# Altium footprint library LABLIB.PcbLib: 213 footprints (part 8 of 14)
Each footprint in its own frame and in the unit in brackets; x right, y up, seen from the top. Pads: shape width x height; smd on the part's side, far side on the other; paste and mask are expansions set on the pad; w line width, h text height; cw(c..) or ccw(c..) is an arc to the next point about the centre after c.
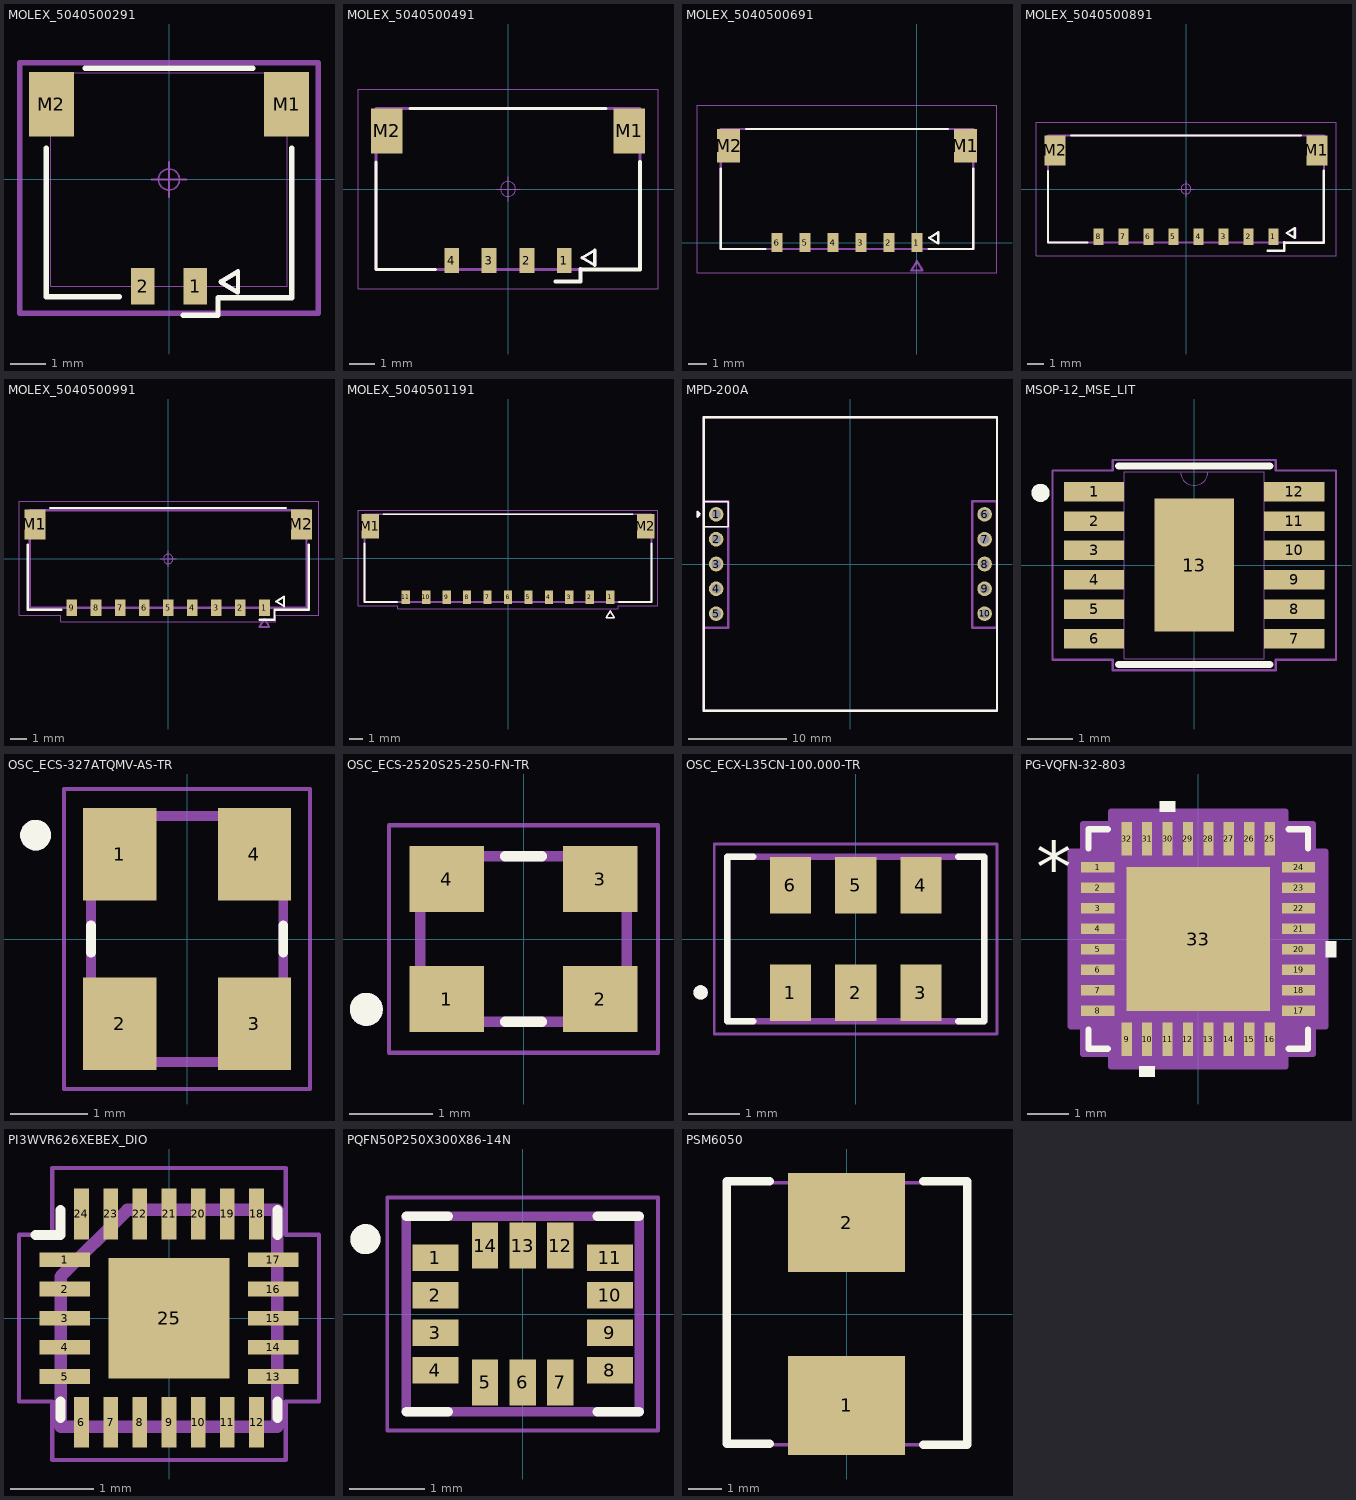
[diagram p7: the footprints below, top view; thin cyan lines are the x and y axes]

## MOLEX_5040500291 [mil]
pads (4):
  rect 26x41 smd paste+0 mask+0: 1(29.53,-119.76) 2(-29.53,-119.76)
  rect 51x73 smd paste+0 mask+0: M1(132.09,84.57) M2(-132.09,84.57)
Top Overlay:
  lines w5: 57.87,-115.04 77.56,-103.23 77.56,-126.85 57.87,-115.04
  lines w5.91: 15.75,-152.44 55.12,-152.44 55.12,-132.76
  lines w6: -138,34.97 -138,-131.75 -55.63,-131.75 ; -94.09,125 94.09,125 ; 55.63,-132.91 138,-132.91 138,34.97
Top Assembly:
  text "'.Designator'" at -166.01,-26.12 h62.99
Top Component Center:
  circle w1.97: c0,0 r11.81
  lines w1.97: -19.68,0 19.68,0 ; 0,-19.68 0,19.68
Mechanical 13:
  lines w1: -133,-120 133,-120 133,120 -133,120 -133,-120
  lines w5: 57.87,-115.04 77.56,-103.23 77.56,-126.85 57.87,-115.04
Mechanical 15:
  lines w6: -167.59,-150.26 -167.59,131.07 167.59,131.07 167.59,-150.26 -167.59,-150.26
3D body "5040500291.stp": height 78.74, standoff 0, extent -148.65,-132.46 148.59,121.08

## MOLEX_5040500491 [mm]
height 2.15
pads (6):
  rect 0.6x1 smd mask+0.076: 1(2.25,-2.87) 2(0.75,-2.87) 3(-0.75,-2.87) 4(-2.25,-2.87)
  rect 1.25x1.8 smd mask+0.076: M1(4.855,2.32) M2(-4.855,2.32)
Top Overlay:
  lines w0.127: -5.275,1.08 -5.275,-3.22 -2.9,-3.22 ; -3.91,3.22 3.91,3.22 ; 2.97,-2.75 3.47,-3.05 3.47,-2.45 2.97,-2.75
  lines w0.15: 1.9,-3.7 2.9,-3.7 2.9,-3.2 ; 2.9,-3.22 5.275,-3.22 5.275,1.08
Top Assembly:
  text "'.Designator'" at -4.217,-0.663 h1.6
Top Courtyard:
  lines w0.05: -6,-4 -6,4 6,4 6,-4 -6,-4
Top Component Center:
  circle w0.05: c0,0 r0.3
  lines w0.05: -0.5,0 0.5,0 ; 0,-0.5 0,0.5
Mechanical 13:
  lines w0.127: -5.275,-3.22 5.275,-3.22 5.275,3.22 -5.275,3.22 -5.275,-3.22 ; 2.97,-2.75 3.47,-3.05 3.47,-2.45 2.97,-2.75
3D body "5040500491.stp": height 2, standoff 0, extent -5.275,-3.2 5.275,3.24

## MOLEX_5040500691 [mm]
height 2.15
pads (8):
  rect 0.6x1 smd mask+0.076: 1(0,0) 2(-1.5,0) 3(-3,0) 4(-4.5,0) 5(-6,0) 6(-7.5,0)
  rect 1.25x1.8 smd mask+0.076: M1(2.605,5.19) M2(-10.105,5.19)
Top Overlay:
  lines w0.127: -10.525,3.97 -10.525,-0.35 -8.12,-0.35 ; -9.16,6.09 1.66,6.09 ; 0.62,-0.35 3.025,-0.35 3.025,3.97 ; 0.65,0.25 1.15,0.55 1.15,-0.05 0.65,0.25
Mechanical 13:
  lines w0.127: -10.525,-0.35 -10.525,6.09 3.025,6.09 3.025,-0.35 -10.525,-0.35 ; -0.3,-1.5 0,-1 0.3,-1.5 -0.3,-1.5
  text "1.50mm Pitch, Pico-Lock PCB Header, Single Row, Right-Angle" at -10.5,-5 h0.5
Mechanical 15:
  lines w0.05: -11.795,-1.62 4.295,-1.62 4.295,7.36 -11.795,7.36 -11.795,-1.62
3D body "5040500691.stp": height 2, standoff 0, extent -10.475,-0.4 3.075,6.04

## MOLEX_5040500891 [mm]
height 2.15
pads (10):
  rect 0.6x1 smd mask+0.076: 1(5.25,-2.87) 2(3.75,-2.87) 3(2.25,-2.87) 4(0.75,-2.87) 5(-0.75,-2.87) 6(-2.25,-2.87) 7(-3.75,-2.87) 8(-5.25,-2.87)
  rect 1.25x1.8 smd mask+0.076: M1(7.855,2.32) M2(-7.855,2.32)
Top Overlay:
  lines w0.127: -8.275,1.08 -8.275,-3.22 -5.9,-3.22 ; -6.91,3.22 6.91,3.22 ; 6.028,-2.645 6.528,-2.345 6.528,-2.945 6.028,-2.645
  lines w0.15: 4.9,-3.7 5.9,-3.7 5.9,-3.2 ; 5.9,-3.22 8.275,-3.22 8.275,1.08
Top Assembly:
  text "'.Designator'" at -4.217,-0.663 h1.6
Top Courtyard:
  lines w0.05: -9,-4 9,-4 9,4 -9,4 -9,-4
Top Component Center:
  circle w0.05: c0,0 r0.3
  lines w0.05: -0.5,0 0.5,0 ; 0,-0.5 0,0.5
Mechanical 13:
  lines w0.127: -8.275,-3.22 -8.275,3.22 8.275,3.22 8.275,-3.22 -8.275,-3.22 ; 6.07,-2.65 6.57,-2.95 6.57,-2.35 6.07,-2.65
3D body "5040500891.stp": height 2, standoff 0, extent -8.275,-3.2 8.275,3.24

## MOLEX_5040500991 [mil]
pads (11):
  rect 26x41 smd paste+0 mask+0: 1(236.22,-119.76) 2(177.17,-119.76) 3(118.11,-119.76) 4(59.06,-119.76) 5(0,-119.76) 6(-59.06,-119.76) 7(-118.11,-119.76) 8(-177.17,-119.76) 9(-236.22,-119.76)
  rect 51x73 smd: M1(-326.97,84.57) M2(326.97,84.57)
Top Overlay:
  lines w5: 264.96,-104.33 284.65,-92.52 284.65,-116.14 264.96,-104.33
  lines w5.91: -344.5,34.97 -344.5,-125 -262.32,-125 ; -288.97,125 288.97,125 ; 224.41,-149.61 260.92,-149.61 260.92,-125.02 ; 344.5,34.97 344.5,-125 260.9,-125 ; 260.9,-125 260.92,-125.02
Top Assembly:
  lines w5: 224.26,-166.53 236.07,-146.84 247.89,-166.53 224.26,-166.53
  lines w5.91: -339.5,-120 339.5,-120 339.5,120 -339.5,120 -339.5,-120
  text "'.Designator'" at -166.01,-26.12 h62.99
Top Courtyard:
  lines w1.97: -366.14,-137.8 -366.14,141.73 -303.15,141.73 370.08,141.73 370.08,-137.8 263.78,-137.8 263.78,-153.54 -263.78,-153.54 -263.78,-137.8 -366.14,-137.8
Top Component Center:
  circle w1.97: c0,0 r11.81
  lines w1.97: -19.68,0 19.68,0 ; 0,-19.68 0,19.68
3D body "5040500991.stp": height 78.74, standoff 0, extent -355.31,-125.98 355.31,127.56

## MOLEX_5040501191 [mm]
height 2.15
pads (13):
  rect 0.6x1 smd mask+0.076: 1(7.5,-2.87) 2(6,-2.87) 3(4.5,-2.87) 4(3,-2.87) 5(1.5,-2.87) 6(0,-2.87) 7(-1.5,-2.87) 8(-3,-2.87) 9(-4.5,-2.87) 10(-6,-2.87) 11(-7.5,-2.87)
  rect 1.25x1.8 smd mask+0.076: M1(-10.105,2.32) M2(10.105,2.32)
Top Overlay:
  lines w0.127: -10.525,1.08 -10.525,-3.22 -8.15,-3.22 ; -9.16,3.22 9.16,3.22 ; 8.15,-3.22 10.525,-3.22 10.525,1.08 ; 7.2,-4.37 7.8,-4.37 7.5,-3.87 7.2,-4.37
Top Courtyard:
  lines w0.05: -11,-3.5 -8.1,-3.5 -8.1,-3.7 8.1,-3.7 8.1,-3.5 10.8,-3.5 11,-3.5 11,3.4 11,3.5 -11,3.5 -11,-3.5
Mechanical 13:
  lines w0.127: -10.525,-3.22 10.525,-3.22 10.525,3.22 -10.525,3.22 -10.525,-3.22 ; 7.2,-4.37 7.8,-4.37 7.5,-3.87 7.2,-4.37
3D body "5040501191.stp": height 2, standoff 0, extent -10.525,-3.2 10.525,3.24

## MPD-200A [mm]
pads (10):
  round 1.5 hole 1 paste-2539.97 mask+0: 1(-13.74,5.08) 2(-13.74,2.54) 3(-13.74,0) 4(-13.74,-2.54) 5(-13.74,-5.08) 6(13.73,5.08) 7(13.73,2.54) 8(13.73,0) 9(13.73,-2.54) 10(13.73,-5.08)
Top Overlay:
  lines w0.15: -15.692,5.054 -15.416,5.054 -15.692,4.778 -15.692,5.378 -15.392,5.078 ; -15.592,4.978 -15.592,5.178 ; -14.987,3.806 -12.524,3.806 -12.5,3.83 -12.5,6.346 -14.987,6.346
  lines w0.254: -15,-15 -15,15 15,15 15,-15 -15,-15
Top Assembly:
  lines w0.15: -15.599,4.988 -15.599,5.188 ; -15.599,5.088 -15.499,5.088 ; -15.699,4.788 -15.699,5.388 -15.399,5.088 -15.699,4.788
  lines w0.254: -15,-6.5 -15,6.4 -12.5,6.4 -12.5,-6.5 -15,-6.5 ; 12.47,-6.5 12.47,6.4 14.97,6.4 14.97,-6.5 12.47,-6.5
Top Courtyard:
  lines w0.15: -14.987,3.806 -12.524,3.806 -12.5,3.83 -12.5,6.346 -14.987,6.346
  lines w0.254: -15,-15 -15,15 15,15 15,-15 -15,-15
Bottom Courtyard:
  lines w0.15: -14.987,3.806 -12.524,3.806 -12.5,3.83 -12.5,6.346 -14.987,6.346
  lines w0.254: -15,-15 -15,15 15,15 15,-15 -15,-15
3D body "MPD-200A.step": height 18.2, standoff -5.83, extent -15,-15 15.1,15

## MSOP-12_MSE_LIT [mil]
pads (13):
  rect 52.5x17 smd paste+0 mask+0: 1(-87.25,64) 2(-87.25,38.4) 3(-87.25,12.8) 4(-87.25,-12.8) 5(-87.25,-38.4) 6(-87.25,-64) 7(87.25,-64) 8(87.25,-38.4) 9(87.25,-12.8) 10(87.25,12.8) 11(87.25,38.4) 12(87.25,64)
  rect 69x116 smd paste-57.5 mask+0: 13(0,0)
Top Overlay:
  circle w7.87: c-133.86,62.99 r3.94
  lines w6: -66,-86.5 66,-86.5 ; -66,86.5 66,86.5
Top Paste:
  region: 30.56,-3.94 -30.56,-3.94 -30.56,-54.06 30.56,-54.06
  region: 30.56,54.06 -30.56,54.06 -30.56,3.94 30.56,3.94
Mechanical 13:
  lines w1: -12,81.5 ccw(c0,81.5) 12,81.5 ; -99.5,-71.5 -61,-71.5 -61,-56.5 -99.5,-56.5 -99.5,-71.5 ; -99.5,-45.9 -61,-45.9 -61,-30.9 -99.5,-30.9 -99.5,-45.9 ; -99.5,-20.3 -61,-20.3 -61,-5.3 -99.5,-5.3 -99.5,-20.3 ; -99.5,5.3 -61,5.3 -61,20.3 -99.5,20.3 -99.5,5.3 ; -99.5,30.9 -61,30.9 -61,45.9 -99.5,45.9 -99.5,30.9 ; -99.5,56.5 -61,56.5 -61,71.5 -99.5,71.5 -99.5,56.5 ; -61,-81.5 -61,81.5 61,81.5 61,-81.5 -61,-81.5 ; 61,-71.5 99.5,-71.5 99.5,-56.5 61,-56.5 61,-71.5 ; 61,-45.9 99.5,-45.9 99.5,-30.9 61,-30.9 61,-45.9 ; 61,-20.3 99.5,-20.3 99.5,-5.3 61,-5.3 61,-20.3 ; 61,5.3 99.5,5.3 99.5,20.3 61,20.3 61,5.3 ; 61,30.9 99.5,30.9 99.5,45.9 61,45.9 61,30.9 ; 61,56.5 99.5,56.5 99.5,71.5 61,71.5 61,56.5
  text ".Designator" at -137.5,-25 h50
  text "*" at -58.5,28.5 h50
Mechanical 15:
  lines w1.97: -123.5,-82.5 -71,-82.5 -71,-91.5 71,-91.5 71,-82.5 123.5,-82.5 123.5,82.5 71,82.5 71,91.5 -71,91.5 -71,82.5 -123.5,82.5 -123.5,-82.5
3D body "MSOP-12_MSE_LIT.step": height 43.11, standoff -2.01, extent -99.49,-81.5 99.49,81.5

## OSC_ECS-327ATQMV-AS-TR [mm]
height 1
pads (4):
  rect 0.95x1.2 smd: 1(-0.875,1.1) 2(-0.875,-1.1) 3(0.875,-1.1) 4(0.875,1.1)
Top Overlay:
  circle w0.2: c-1.97,1.35 r0.1
  lines w0.127: -1.25,-0.18 -1.25,0.18 ; 1.25,-0.18 1.25,0.18
Top Courtyard:
  lines w0.05: -1.6,-1.95 1.6,-1.95 1.6,1.95 -1.6,1.95 -1.6,-1.95
Mechanical 13:
  circle w0.2: c-1.97,1.35 r0.1
  lines w0.127: -1.25,-1.6 1.25,-1.6 1.25,1.6 -1.25,1.6 -1.25,-1.6
3D body "step_temp.STEP": height 1, standoff 0, extent -1.25,-1.6 1.25,1.6

## OSC_ECS-2520S25-250-FN-TR [mm]
pads (4):
  rect 0.9x0.8 smd paste+0 mask+0.102: 1(-0.925,-0.725) 2(0.925,-0.725) 3(0.925,0.725) 4(-0.925,0.725)
Top Overlay:
  circle w0.2: c-1.9,-0.85 r0.1
  lines w0.127: -0.221,-1 0.221,-1 ; -0.221,1 0.221,1
Top Courtyard:
  lines w0.05: -1.625,-1.375 -1.625,1.375 1.625,1.375 1.625,-1.375 -1.625,-1.375
Mechanical 13:
  circle w0.2: c-1.9,-0.85 r0.1
  lines w0.127: -1.25,-1 1.25,-1 1.25,1 -1.25,1 -1.25,-1
3D body "step_temp.STEP": height 0.9, standoff 0, extent -1.25,-1 1.25,1

## OSC_ECX-L35CN-100.000-TR [mm]
pads (6):
  rect 0.8x1.1 smd: 1(-1.27,-1.05) 2(0,-1.05) 3(1.27,-1.05) 4(1.27,1.05) 5(0,1.05) 6(-1.27,1.05)
Top Overlay:
  circle w0.14: c-3.02,-1.04 r0.07
  lines w0.127: -2,-1.6 -2.5,-1.6 -2.5,1.6 -2,1.6 ; 2,-1.6 2.5,-1.6 2.5,1.6 2,1.6
Top Courtyard:
  lines w0.05: -2.75,-1.85 -2.75,1.85 2.75,1.85 2.75,-1.85 -2.75,-1.85
Mechanical 13:
  circle w0.14: c-3.02,-1.04 r0.07
  lines w0.127: -2.5,-1.6 -2.5,1.6 2.5,1.6 2.5,-1.6 -2.5,-1.6
3D body "step_temp.STEP": height 1.3, standoff 0, extent -2.5,-1.6 2.5,1.6

## PCBComponent_1 [mm]

## PG-VQFN-32-803 [mil]
pads (33):
  rect 32x10 smd paste+0 mask+0: 1(-96.5,68.9) 2(-96.5,49.21) 3(-96.5,29.53) 4(-96.5,9.84) 5(-96.5,-9.84) 6(-96.5,-29.53) 7(-96.5,-49.21) 8(-96.5,-68.9) 17(96.5,-68.9) 18(96.5,-49.21) 19(96.5,-29.53) 20(96.5,-9.84) 21(96.5,9.84) 22(96.5,29.53) 23(96.5,49.21) 24(96.5,68.9)
  rect 10x32 smd paste+0 mask+0: 9(-68.9,-96.5) 10(-49.21,-96.5) 11(-29.53,-96.5) 12(-9.84,-96.5) 13(9.84,-96.5) 14(29.53,-96.5) 15(49.21,-96.5) 16(68.9,-96.5) 25(68.9,96.5) 26(49.21,96.5) 27(29.53,96.5) 28(9.84,96.5) 29(-9.84,96.5) 30(-29.53,96.5) 31(-49.21,96.5) 32(-68.9,96.5)
  rect 138x138 smd paste+0 mask+0: 33(0,0)
Top Overlay:
  region: -22.03,122.5 -37.03,122.5 -37.03,132.5 -22.03,132.5
  region: 122.5,-2.34 132.5,-2.34 132.5,-17.34 122.5,-17.34
  region: -41.71,-122.5 -56.71,-122.5 -56.71,-132.5 -41.71,-132.5
  lines w6: -105.5,-87 -105.5,-105.5 -87,-105.5 ; -105.5,87 -105.5,105.5 -87,105.5 ; 87,-105.5 105.5,-105.5 105.5,-87 ; 87,105.5 105.5,105.5 105.5,87
  text "*" at -156,43.9 h50
Mechanical 13:
  lines w1: -100.5,50.5 -50.5,100.5 ; -100.5,-100.5 -100.5,100.5 100.5,100.5 100.5,-100.5 -100.5,-100.5 ; -100.5,-74.9 -100.5,-62.9 -100.5,-74.9 ; -100.5,-55.21 -100.5,-43.21 -100.5,-55.21 ; -100.5,-35.53 -100.5,-23.53 -100.5,-35.53 ; -100.5,-15.84 -100.5,-3.84 -100.5,-15.84 ; -100.5,3.84 -100.5,15.84 -100.5,3.84 ; -100.5,23.53 -100.5,35.53 -100.5,23.53 ; -100.5,43.21 -100.5,55.21 -100.5,43.21 ; -100.5,62.9 -100.5,74.9 -100.5,62.9 ; -74.9,-100.5 -62.9,-100.5 -74.9,-100.5 ; -74.9,100.5 -62.9,100.5 -74.9,100.5 ; -55.21,-100.5 -43.21,-100.5 -55.21,-100.5 ; -55.21,100.5 -43.21,100.5 -55.21,100.5 ; -35.53,-100.5 -23.53,-100.5 -35.53,-100.5 ; -35.53,100.5 -23.53,100.5 -35.53,100.5 ; -15.84,-100.5 -3.84,-100.5 -15.84,-100.5 ; -15.84,100.5 -3.84,100.5 -15.84,100.5 ; 3.84,-100.5 15.84,-100.5 3.84,-100.5 ; 3.84,100.5 15.84,100.5 3.84,100.5 ; 23.53,-100.5 35.53,-100.5 23.53,-100.5 ; 23.53,100.5 35.53,100.5 23.53,100.5 ; 43.21,-100.5 55.21,-100.5 43.21,-100.5 ; 43.21,100.5 55.21,100.5 43.21,100.5 ; 62.9,-100.5 74.9,-100.5 62.9,-100.5 ; 62.9,100.5 74.9,100.5 62.9,100.5 ; 100.5,-74.9 100.5,-62.9 100.5,-74.9 ; 100.5,-55.21 100.5,-43.21 100.5,-55.21 ; 100.5,-35.53 100.5,-23.53 100.5,-35.53 ; 100.5,-15.84 100.5,-3.84 100.5,-15.84 ; 100.5,3.84 100.5,15.84 100.5,3.84 ; 100.5,23.53 100.5,35.53 100.5,23.53 ; 100.5,43.21 100.5,55.21 100.5,43.21 ; 100.5,62.9 100.5,74.9 100.5,62.9
  text "*" at -62,43.9 h50
Mechanical 15:
  region: -83.9,-110.5 -110.5,-110.5 -110.5,-83.9 -122.5,-83.9 -122.5,83.9 -110.5,83.9 -110.5,110.5 -83.9,110.5 -83.9,122.5 83.9,122.5 83.9,110.5 110.5,110.5 110.5,83.9 122.5,83.9 122.5,-83.9 110.5,-83.9 110.5,-110.5 83.9,-110.5 83.9,-122.5 -83.9,-122.5
  lines w6: -122.5,-83.9 -122.5,83.9 -110.5,83.9 -110.5,110.5 -83.9,110.5 -83.9,122.5 83.9,122.5 83.9,110.5 110.5,110.5 110.5,83.9 122.5,83.9 122.5,-83.9 110.5,-83.9 110.5,-110.5 83.9,-110.5 83.9,-122.5 -83.9,-122.5 -83.9,-110.5 -110.5,-110.5 -110.5,-83.9 -122.5,-83.9
3D body "PG-VQFN-32-803.step": height 37.09, standoff 0, extent -100.51,-100.51 100.51,100.51

## PI3WVR626XEBEX_DIO [mil]
pads (25):
  rect 24x7 smd paste+0 mask+0: 1(-49.21,27.56) 2(-49.21,13.78) 3(-49.21,0) 4(-49.21,-13.78) 5(-49.21,-27.56) 13(49.21,-27.56) 14(49.21,-13.78) 15(49.21,0) 16(49.21,13.78) 17(49.21,27.56)
  rect 7x24 smd paste+0 mask+0: 6(-41.34,-49.21) 7(-27.56,-49.21) 8(-13.78,-49.21) 9(0,-49.21) 10(13.78,-49.21) 11(27.56,-49.21) 12(41.34,-49.21) 18(41.34,49.21) 19(27.56,49.21) 20(13.78,49.21) 21(0,49.21) 22(-13.78,49.21) 23(-27.56,49.21) 24(-41.34,49.21)
  rect 57x57 smd paste+0 mask+0: 25(0,0)
Top Overlay:
  lines w4.72: -62.99,39.37 -51.18,39.37 -51.18,51.18 ; -51.18,-47.24 -51.18,-39.37 ; 51.18,-47.24 51.18,-39.37 ; 51.18,39.37 51.18,51.18
Top Assembly:
  lines w5.91: -51.18,-51.18 -51.18,19.68 -19.68,51.18 51.18,51.18 51.18,-51.18 -51.18,-51.18
  text "'.Designator'" at -166.01,-26.12 h62.99
Top Courtyard:
  lines w1.97: -62.99,39.37 -55.12,39.37 -55.12,70.87 55.12,70.87 55.12,39.37 70.87,39.37 70.87,-39.37 55.12,-39.37 55.12,-66.93 -55.12,-66.93 -55.12,-39.37 -70.87,-39.37 -70.87,39.37 -59.06,39.37
Top Component Center:
  circle w1.97: c0,0 r11.81
  lines w1.97: -19.68,0 19.68,0 ; 0,-19.68 0,19.68
3D body "PI3WVR626XEBEX_DIO.step": height 20.12, standoff 0, extent -49.21,-49.21 49.21,49.21

## PQFN50P250X300X86-14N [mm]
pads (14):
  rect 0.61x0.35 smd mask+0: 1(-1.16,0.75) 2(-1.16,0.25) 3(-1.16,-0.25) 4(-1.16,-0.75) 8(1.16,-0.75) 9(1.16,-0.25) 10(1.16,0.25) 11(1.16,0.75)
  rect 0.35x0.61 smd mask+0: 5(-0.5,-0.91) 6(0,-0.91) 7(0.5,-0.91) 12(0.5,0.91) 13(0,0.91) 14(-0.5,0.91)
Top Overlay:
  circle w0.2: c-2.09,0.995 r0.1
  lines w0.127: -1.55,-1.3 -0.99,-1.3 ; -1.55,1.3 -0.99,1.3 ; 0.99,-1.3 1.55,-1.3 ; 0.99,1.3 1.55,1.3
Top Assembly:
  lines w0.127: -1.55,-1.3 -1.55,1.3 1.55,1.3 1.55,-1.3 -1.55,-1.3
Top Courtyard:
  lines w0.05: -1.8,-1.55 -1.8,1.55 1.8,1.55 1.8,-1.55 -1.8,-1.55
Mechanical 13:
  circle w0.2: c-2.09,0.995 r0.1
3D body "step_temp.STEP": height 0.86, standoff 0, extent -1.5,-1.25 1.5,1.25

## PSM6050 [mm]
pads (2):
  rect 3.5x2.95 smd: 1(0,-2.725) 2(0,2.725)
Top Overlay:
  lines w0.254: -2.286,-3.875 -3.577,-3.875 -3.577,3.955 -2.286,3.955 ; 2.286,-3.898 3.603,-3.898 3.603,3.955 2.286,3.955
Mechanical 1:
  text "'.Designator'" at -4.233,-0.672 h1.6
Top Assembly:
  lines w0.1: -3.553,-3.903 -3.553,3.914 3.561,3.914 3.561,-3.903 -3.553,-3.903
3D body "SRP7050TA.stp": height -0.39, standoff -5.34, extent -3.3,-3.65 3.3,3.65